# EAGLE library part BGA352 (library BGASolder)
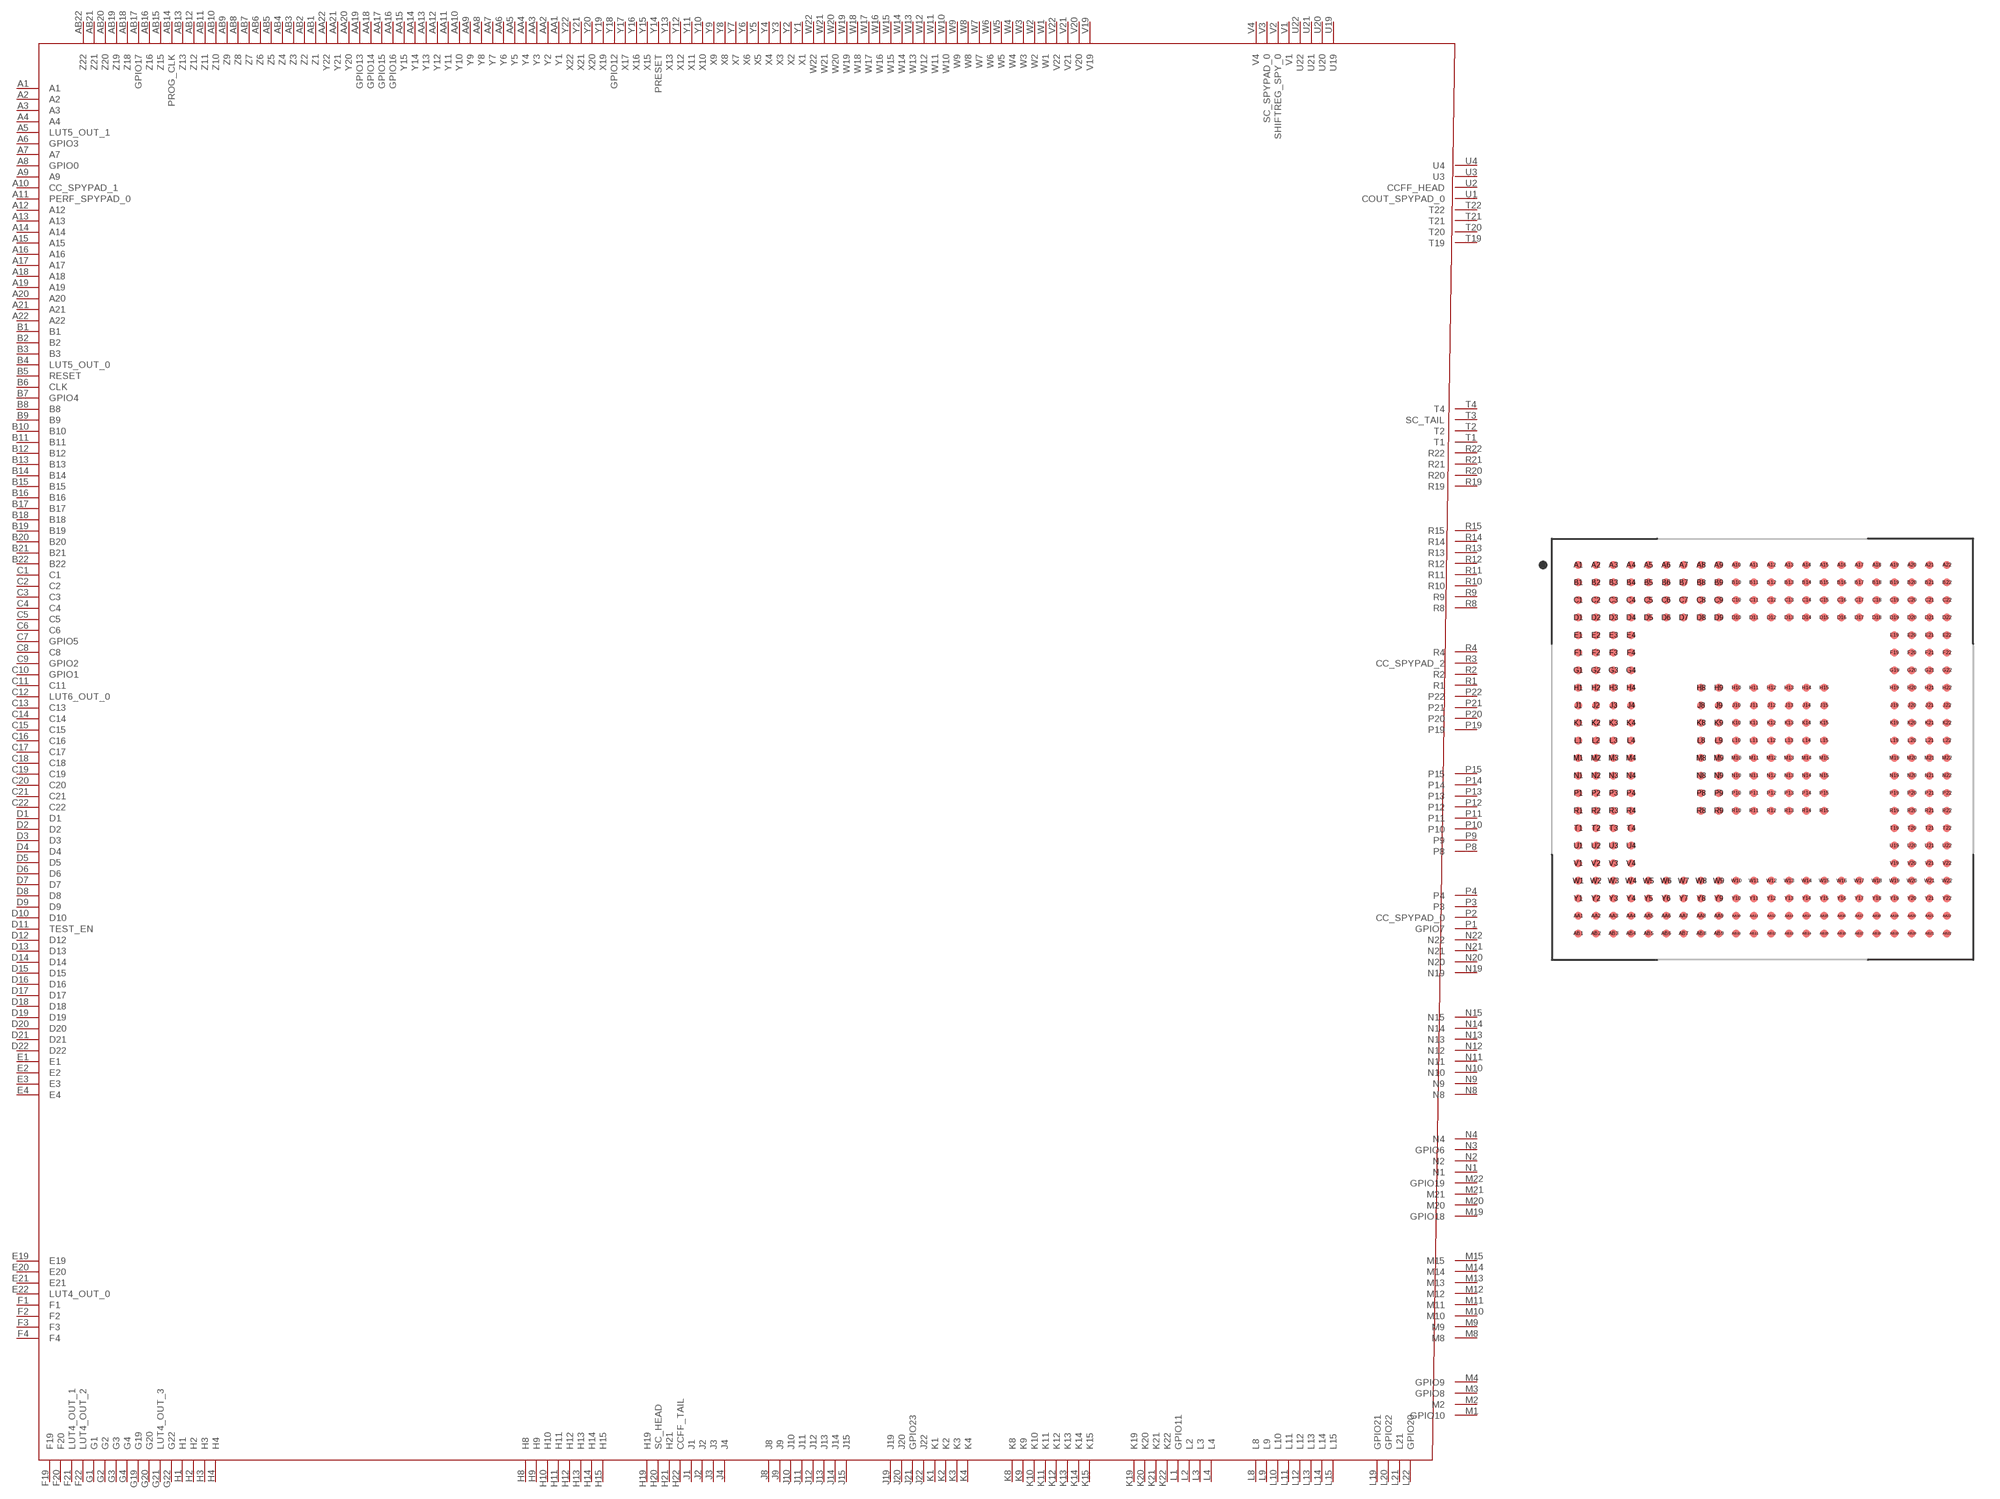
[diagram p0: symbol with the pads of BGA484C100P22X22_2400X2400X220N; footprint BGA484C100P22X22_2400X2400X220N]

Designator prefix -

## BGA352  [BGA484C100P22X22_2400X2400X220N]
A1  A1
A2  A2
A3  A3
A4  A4
A5  LUT5_OUT_1
A6  GPIO3
A7  A7
A8  GPIO0
A9  A9
A10  CC_SPYPAD_1
A11  PERF_SPYPAD_0
A12  A12
A13  A13
A14  A14
A15  A15
A16  A16
A17  A17
A18  A18
A19  A19
A20  A20
A21  A21
A22  A22
AA1  Y1
AA2  Y2
AA3  Y3
AA4  Y4
AA5  Y5
AA6  Y6
AA7  Y7
AA8  Y8
AA9  Y9
AA10  Y10
AA11  Y11
AA12  Y12
AA13  Y13
AA14  Y14
AA15  Y15
AA16  GPIO16
AA17  GPIO15
AA18  GPIO14
AA19  GPIO13
AA20  Y20
AA21  Y21
AA22  Y22
AB1  Z1
AB2  Z2
AB3  Z3
AB4  Z4
AB5  Z5
AB6  Z6
AB7  Z7
AB8  Z8
AB9  Z9
AB10  Z10
AB11  Z11
AB12  Z12
AB13  Z13
AB14  PROG_CLK
AB15  Z15
AB16  Z16
AB17  GPIO17
AB18  Z18
AB19  Z19
AB20  Z20
AB21  Z21
AB22  Z22
B1  B1
B2  B2
B3  B3
B4  LUT5_OUT_0
B5  RESET
B6  CLK
B7  GPIO4
B8  B8
B9  B9
B10  B10
B11  B11
B12  B12
B13  B13
B14  B14
B15  B15
B16  B16
B17  B17
B18  B18
B19  B19
B20  B20
B21  B21
B22  B22
C1  C1
C2  C2
C3  C3
C4  C4
C5  C5
C6  C6
C7  GPIO5
C8  C8
C9  GPIO2
C10  GPIO1
C11  C11
C12  LUT6_OUT_0
C13  C13
C14  C14
C15  C15
C16  C16
C17  C17
C18  C18
C19  C19
C20  C20
C21  C21
C22  C22
D1  D1
D2  D2
D3  D3
D4  D4
D5  D5
D6  D6
D7  D7
D8  D8
D9  D9
D10  D10
D11  TEST_EN
D12  D12
D13  D13
D14  D14
D15  D15
D16  D16
D17  D17
D18  D18
D19  D19
D20  D20
D21  D21
D22  D22
E1  E1
E2  E2
E3  E3
E4  E4
E19  E19
E20  E20
E21  E21
E22  LUT4_OUT_0
F1  F1
F2  F2
F3  F3
F4  F4
F19  F19
F20  F20
F21  LUT4_OUT_1
F22  LUT4_OUT_2
G1  G1
G2  G2
G3  G3
G4  G4
G19  G19
G20  G20
G21  LUT4_OUT_3
G22  G22
H1  H1
H2  H2
H3  H3
H4  H4
H8  H8
H9  H9
H10  H10
H11  H11
H12  H12
H13  H13
H14  H14
H15  H15
H19  H19
H20  SC_HEAD
H21  H21
H22  CCFF_TAIL
J1  J1
J2  J2
J3  J3
J4  J4
J8  J8
J9  J9
J10  J10
J11  J11
J12  J12
J13  J13
J14  J14
J15  J15
J19  J19
J20  J20
J21  GPIO23
J22  J22
K1  K1
K2  K2
K3  K3
K4  K4
K8  K8
K9  K9
K10  K10
K11  K11
K12  K12
K13  K13
K14  K14
K15  K15
K19  K19
K20  K20
K21  K21
K22  K22
L1  GPIO11
L2  L2
L3  L3
L4  L4
L8  L8
L9  L9
L10  L10
L11  L11
L12  L12
L13  L13
L14  L14
L15  L15
L19  GPIO21
L20  GPIO22
L21  L21
L22  GPIO20
M1  GPIO10
M2  M2
M3  GPIO8
M4  GPIO9
M8  M8
M9  M9
M10  M10
M11  M11
M12  M12
M13  M13
M14  M14
M15  M15
M19  GPIO18
M20  M20
M21  M21
M22  GPIO19
N1  N1
N2  N2
N3  GPIO6
N4  N4
N8  N8
N9  N9
N10  N10
N11  N11
N12  N12
N13  N13
N14  N14
N15  N15
N19  N19
N20  N20
N21  N21
N22  N22
P1  GPIO7
P2  CC_SPYPAD_0
P3  P3
P4  P4
P8  P8
P9  P9
P10  P10
P11  P11
P12  P12
P13  P13
P14  P14
P15  P15
P19  P19
P20  P20
P21  P21
P22  P22
R1  R1
R2  R2
R3  CC_SPYPAD_2
R4  R4
R8  R8
R9  R9
R10  R10
R11  R11
R12  R12
R13  R13
R14  R14
R15  R15
R19  R19
R20  R20
R21  R21
R22  R22
T1  T1
T2  T2
T3  SC_TAIL
T4  T4
T19  T19
T20  T20
T21  T21
T22  T22
U1  COUT_SPYPAD_0
U2  CCFF_HEAD
U3  U3
U4  U4
U19  U19
U20  U20
U21  U21
U22  U22
V1  V1
V2  SHIFTREG_SPY_0
V3  SC_SPYPAD_0
V4  V4
V19  V19
V20  V20
V21  V21
V22  V22
W1  W1
W2  W2
W3  W3
W4  W4
W5  W5
W6  W6
W7  W7
W8  W8
W9  W9
W10  W10
W11  W11
W12  W12
W13  W13
W14  W14
W15  W15
W16  W16
W17  W17
W18  W18
W19  W19
W20  W20
W21  W21
W22  W22
Y1  X1
Y2  X2
Y3  X3
Y4  X4
Y5  X5
Y6  X6
Y7  X7
Y8  X8
Y9  X9
Y10  X10
Y11  X11
Y12  X12
Y13  X13
Y14  PRESET
Y15  X15
Y16  X16
Y17  X17
Y18  GPIO12
Y19  X19
Y20  X20
Y21  X21
Y22  X22

## Footprint BGA484C100P22X22_2400X2400X220N (pad centres in mm)
352-BGA, collapsing, 1.00 mm pitch, 24.00 X 24.00 X 2.20 mm body 352-pin collapsing BGA package with 1.00 mm col pitch and 1.00 mm row pitch with body size 24.00 X 24.00 X 2.20 mm
smd 0.45 x 0.45: A1 -10.5,10.5; A2 -9.5,10.5; A3 -8.5,10.5; A4 -7.5,10.5; A5 -6.5,10.5; A6 -5.5,10.5; A7 -4.5,10.5; A8 -3.5,10.5; A9 -2.5,10.5; A10 -1.5,10.5; A11 -0.5,10.5; A12 0.5,10.5; A13 1.5,10.5; A14 2.5,10.5; A15 3.5,10.5; A16 4.5,10.5; A17 5.5,10.5; A18 6.5,10.5; A19 7.5,10.5; A20 8.5,10.5; A21 9.5,10.5; A22 10.5,10.5; AA1 -10.5,-9.5; AA2 -9.5,-9.5; AA3 -8.5,-9.5; AA4 -7.5,-9.5; AA5 -6.5,-9.5; AA6 -5.5,-9.5; AA7 -4.5,-9.5; AA8 -3.5,-9.5; AA9 -2.5,-9.5; AA10 -1.5,-9.5; AA11 -0.5,-9.5; AA12 0.5,-9.5; AA13 1.5,-9.5; AA14 2.5,-9.5; AA15 3.5,-9.5; AA16 4.5,-9.5; AA17 5.5,-9.5; AA18 6.5,-9.5; AA19 7.5,-9.5; AA20 8.5,-9.5; AA21 9.5,-9.5; AA22 10.5,-9.5; AB1 -10.5,-10.5; AB2 -9.5,-10.5; AB3 -8.5,-10.5; AB4 -7.5,-10.5; AB5 -6.5,-10.5; AB6 -5.5,-10.5; AB7 -4.5,-10.5; AB8 -3.5,-10.5; AB9 -2.5,-10.5; AB10 -1.5,-10.5; AB11 -0.5,-10.5; AB12 0.5,-10.5; AB13 1.5,-10.5; AB14 2.5,-10.5; AB15 3.5,-10.5; AB16 4.5,-10.5; AB17 5.5,-10.5; AB18 6.5,-10.5; AB19 7.5,-10.5; AB20 8.5,-10.5; AB21 9.5,-10.5; AB22 10.5,-10.5; B1 -10.5,9.5; B2 -9.5,9.5; B3 -8.5,9.5; B4 -7.5,9.5; B5 -6.5,9.5; B6 -5.5,9.5; B7 -4.5,9.5; B8 -3.5,9.5; B9 -2.5,9.5; B10 -1.5,9.5; B11 -0.5,9.5; B12 0.5,9.5; B13 1.5,9.5; B14 2.5,9.5; B15 3.5,9.5; B16 4.5,9.5; B17 5.5,9.5; B18 6.5,9.5; B19 7.5,9.5; B20 8.5,9.5; B21 9.5,9.5; B22 10.5,9.5; C1 -10.5,8.5; C2 -9.5,8.5; C3 -8.5,8.5; C4 -7.5,8.5; C5 -6.5,8.5; C6 -5.5,8.5; C7 -4.5,8.5; C8 -3.5,8.5; C9 -2.5,8.5; C10 -1.5,8.5; C11 -0.5,8.5; C12 0.5,8.5; C13 1.5,8.5; C14 2.5,8.5; C15 3.5,8.5; C16 4.5,8.5; C17 5.5,8.5; C18 6.5,8.5; C19 7.5,8.5; C20 8.5,8.5; C21 9.5,8.5; C22 10.5,8.5; D1 -10.5,7.5; D2 -9.5,7.5; D3 -8.5,7.5; D4 -7.5,7.5; D5 -6.5,7.5; D6 -5.5,7.5; D7 -4.5,7.5; D8 -3.5,7.5; D9 -2.5,7.5; D10 -1.5,7.5; D11 -0.5,7.5; D12 0.5,7.5; D13 1.5,7.5; D14 2.5,7.5; D15 3.5,7.5; D16 4.5,7.5; D17 5.5,7.5; D18 6.5,7.5; D19 7.5,7.5; D20 8.5,7.5; D21 9.5,7.5; D22 10.5,7.5; E1 -10.5,6.5; E2 -9.5,6.5; E3 -8.5,6.5; E4 -7.5,6.5; E19 7.5,6.5; E20 8.5,6.5; E21 9.5,6.5; E22 10.5,6.5; F1 -10.5,5.5; F2 -9.5,5.5; F3 -8.5,5.5; F4 -7.5,5.5; F19 7.5,5.5; F20 8.5,5.5; F21 9.5,5.5; F22 10.5,5.5; G1 -10.5,4.5; G2 -9.5,4.5; G3 -8.5,4.5; G4 -7.5,4.5; G19 7.5,4.5; G20 8.5,4.5; G21 9.5,4.5; G22 10.5,4.5; H1 -10.5,3.5; H2 -9.5,3.5; H3 -8.5,3.5; H4 -7.5,3.5; H8 -3.5,3.5; H9 -2.5,3.5; H10 -1.5,3.5; H11 -0.5,3.5; H12 0.5,3.5; H13 1.5,3.5; H14 2.5,3.5; H15 3.5,3.5; H19 7.5,3.5; H20 8.5,3.5; H21 9.5,3.5; H22 10.5,3.5; J1 -10.5,2.5; J2 -9.5,2.5; J3 -8.5,2.5; J4 -7.5,2.5; J8 -3.5,2.5; J9 -2.5,2.5; J10 -1.5,2.5; J11 -0.5,2.5; J12 0.5,2.5; J13 1.5,2.5; J14 2.5,2.5; J15 3.5,2.5; J19 7.5,2.5; J20 8.5,2.5; J21 9.5,2.5; J22 10.5,2.5; K1 -10.5,1.5; K2 -9.5,1.5; K3 -8.5,1.5; K4 -7.5,1.5; K8 -3.5,1.5; K9 -2.5,1.5; K10 -1.5,1.5; K11 -0.5,1.5; K12 0.5,1.5; K13 1.5,1.5; K14 2.5,1.5; K15 3.5,1.5; K19 7.5,1.5; K20 8.5,1.5; K21 9.5,1.5; K22 10.5,1.5; L1 -10.5,0.5; L2 -9.5,0.5; L3 -8.5,0.5; L4 -7.5,0.5; L8 -3.5,0.5; L9 -2.5,0.5; L10 -1.5,0.5; L11 -0.5,0.5; L12 0.5,0.5; L13 1.5,0.5; L14 2.5,0.5; L15 3.5,0.5; L19 7.5,0.5; L20 8.5,0.5; L21 9.5,0.5; L22 10.5,0.5; M1 -10.5,-0.5; M2 -9.5,-0.5; M3 -8.5,-0.5; M4 -7.5,-0.5; M8 -3.5,-0.5; M9 -2.5,-0.5; M10 -1.5,-0.5; M11 -0.5,-0.5; M12 0.5,-0.5; M13 1.5,-0.5; M14 2.5,-0.5; M15 3.5,-0.5; M19 7.5,-0.5; M20 8.5,-0.5; M21 9.5,-0.5; M22 10.5,-0.5; N1 -10.5,-1.5; N2 -9.5,-1.5; N3 -8.5,-1.5; N4 -7.5,-1.5; N8 -3.5,-1.5; N9 -2.5,-1.5; N10 -1.5,-1.5; N11 -0.5,-1.5; N12 0.5,-1.5; N13 1.5,-1.5; N14 2.5,-1.5; N15 3.5,-1.5; N19 7.5,-1.5; N20 8.5,-1.5; N21 9.5,-1.5; N22 10.5,-1.5; P1 -10.5,-2.5; P2 -9.5,-2.5; P3 -8.5,-2.5; P4 -7.5,-2.5; P8 -3.5,-2.5; P9 -2.5,-2.5; P10 -1.5,-2.5; P11 -0.5,-2.5; P12 0.5,-2.5; P13 1.5,-2.5; P14 2.5,-2.5; P15 3.5,-2.5; P19 7.5,-2.5; P20 8.5,-2.5; P21 9.5,-2.5; P22 10.5,-2.5; R1 -10.5,-3.5; R2 -9.5,-3.5; R3 -8.5,-3.5; R4 -7.5,-3.5; R8 -3.5,-3.5; R9 -2.5,-3.5; R10 -1.5,-3.5; R11 -0.5,-3.5; R12 0.5,-3.5; R13 1.5,-3.5; R14 2.5,-3.5; R15 3.5,-3.5; R19 7.5,-3.5; R20 8.5,-3.5; R21 9.5,-3.5; R22 10.5,-3.5; T1 -10.5,-4.5; T2 -9.5,-4.5; T3 -8.5,-4.5; T4 -7.5,-4.5; T19 7.5,-4.5; T20 8.5,-4.5; T21 9.5,-4.5; T22 10.5,-4.5; U1 -10.5,-5.5; U2 -9.5,-5.5; U3 -8.5,-5.5; U4 -7.5,-5.5; U19 7.5,-5.5; U20 8.5,-5.5; U21 9.5,-5.5; U22 10.5,-5.5; V1 -10.5,-6.5; V2 -9.5,-6.5; V3 -8.5,-6.5; V4 -7.5,-6.5; V19 7.5,-6.5; V20 8.5,-6.5; V21 9.5,-6.5; V22 10.5,-6.5; W1 -10.5,-7.5; W2 -9.5,-7.5; W3 -8.5,-7.5; W4 -7.5,-7.5; W5 -6.5,-7.5; W6 -5.5,-7.5; W7 -4.5,-7.5; W8 -3.5,-7.5; W9 -2.5,-7.5; W10 -1.5,-7.5; W11 -0.5,-7.5; W12 0.5,-7.5; W13 1.5,-7.5; W14 2.5,-7.5; W15 3.5,-7.5; W16 4.5,-7.5; W17 5.5,-7.5; W18 6.5,-7.5; W19 7.5,-7.5; W20 8.5,-7.5; W21 9.5,-7.5; W22 10.5,-7.5; Y1 -10.5,-8.5; Y2 -9.5,-8.5; Y3 -8.5,-8.5; Y4 -7.5,-8.5; Y5 -6.5,-8.5; Y6 -5.5,-8.5; Y7 -4.5,-8.5; Y8 -3.5,-8.5; Y9 -2.5,-8.5; Y10 -1.5,-8.5; Y11 -0.5,-8.5; Y12 0.5,-8.5; Y13 1.5,-8.5; Y14 2.5,-8.5; Y15 3.5,-8.5; Y16 4.5,-8.5; Y17 5.5,-8.5; Y18 6.5,-8.5; Y19 7.5,-8.5; Y20 8.5,-8.5; Y21 9.5,-8.5; Y22 10.5,-8.5